# Altium schematic symbol library SamlibSCH.SchLib: 216 symbols (part 2 of 5)
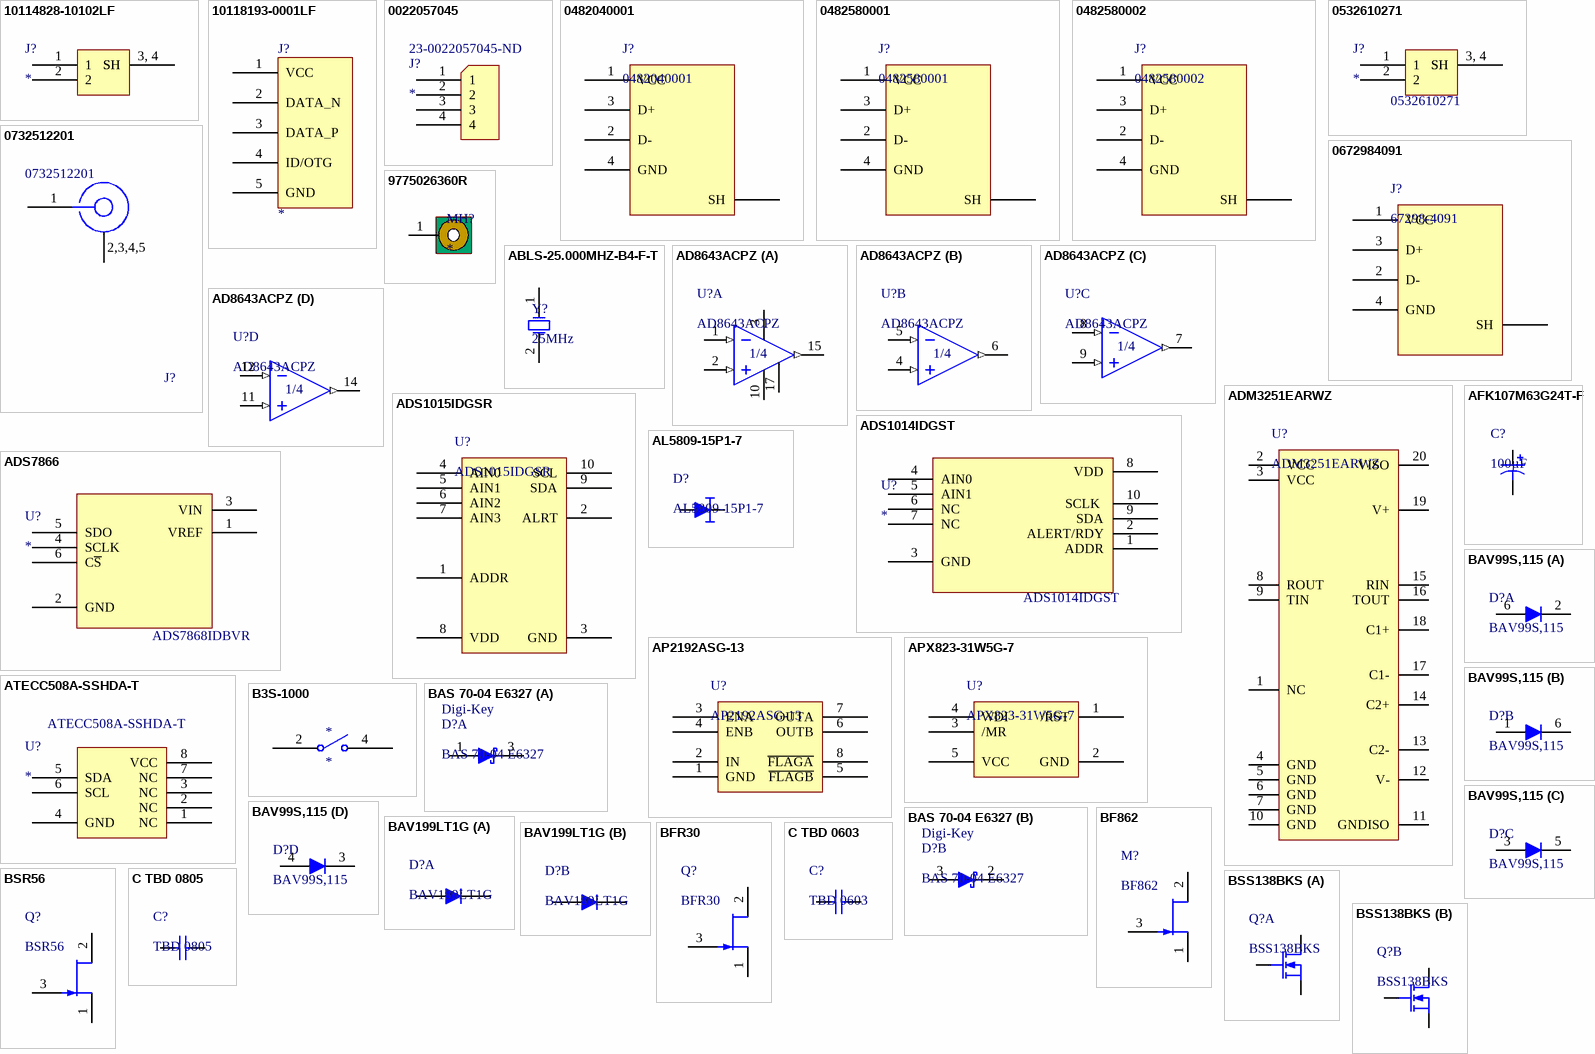
[diagram p8: symbols 10114828-10102LF to C TBD 0805]

## 10118193-0001LF
designator J?
CONN USB MICRO B RECPT SMT R/A; Manufacturer 1: Amphenol FCI; Manufacturer Part Number 1: 10118193-0001LF; Number of Terminals/Pins: 5; Gender: Female; Current Rating: 1.8A; Connector Type: USB,Receptacle; Number of Ports: 1; Insulation Resistance: 1GR; Max Voltage Rating (AC): 100V; Pitch: 0.65mm; Supplier 1: Digi-Key; RoHS: Yes; Category: USB Connectors; Stock 1: 78687; Pricing 1: 1=0.45000, 10=0.43000, 25=0.36840, 50=0.31320, 100=0.30090, 250=0.27016, 500=0.25788 (USD); Mount: Surface Mount,Horizontal; Contact Plating: Gold; Contact Material: Copper Alloy; Housing Material: Polymer; Color: Black; Min Operating Temperature: -55°C; Max Operating Temperature: 85°C; Packaging: Tape and Reel; Number of Contacts: 5; Termination: Solder; Package Quantity: 1200; Voltage Rating: 100V; Orientation: Right Angle; Features: Shielded; Length: 7.86mm; Depth: 5.67mm; Radiation Hardening: No; Flammability Rating: UL94 V-0; ComponentLink1URL: https://datasheet.ciiva.com/851/10118193-851106.pdf?src-supplier=Digi-Key; ComponentLink1Description: https://datasheet.ciiva.com/851/10118193-851106.pdf?src-supplier=Digi-Key; ComponentLink2URL: https://datasheet.ciiva.com/4598/10118193ac-197151-4598799.pdf?src-supplier=Mouser; ComponentLink2Description: https://datasheet.ciiva.com/4598/10118193ac-197151-4598799.pdf?src-supplier=Mouser; ComponentLink3URL: https://datasheet.ciiva.com/26853/getdatasheetpartid-418618-26853893.pdf?src-supplier=Verical; ComponentLink3Description: https://datasheet.ciiva.com/26853/getdatasheetpartid-418618-26853893.pdf?src-supplier=Verical; ComponentLink4URL: https://datasheet.ciiva.com/14802/10118193-0001lf-webpage-14802386.pdf?src-supplier=Arrow+Electronics; ComponentLink4Description: https://datasheet.ciiva.com/14802/10118193-0001lf-webpage-14802386.pdf?src-supplier=Arrow+Electronics; ComponentLink5URL: https://datasheet.ciiva.com/851/10118193-851108.pdf?src-supplier=Digi-Key; ComponentLink5Description: https://datasheet.ciiva.com/851/10118193-851108.pdf?src-supplier=Digi-Key; ComponentLink6URL: https://datasheet.ciiva.com/851/10118193-851107.pdf?src-supplier=Digi-Key; ComponentLink6Description: https://datasheet.ciiva.com/851/10118193-851107.pdf?src-supplier=Digi-Key; ComponentLink7URL: https://datasheet.ciiva.com/14618/70236827-14618887.pdf?src-supplier=Allied+Electronics; ComponentLink7Description: https://datasheet.ciiva.com/14618/70236827-14618887.pdf?src-supplier=Allied+Electronics; Supplier Part Number 1: 609-4616-1-ND
pins: 1 VCC, 2 DATA_N, 3 DATA_P, 4 ID/OTG, 5 GND

## 0022057045
designator J?  Supplier Part Number 1: 23-0022057045-ND
CONN HEADER R/A 4POS 2.5MM; Manufacturer 1: Molex; Contact Resistance: 20mR; Max Voltage Rating (DC): 250.25kV; Gender: Male; Number of Contacts: 4; Shrouded: Yes (With); Current Rating: 3A; Voltage Rating: 250V; Connector Type: Male Pin; Insulation Resistance: 1GR; Test Voltage: 1kV; Glow Wire Compliant: Non-compliant; ComponentLink1URL: https://datasheet.ciiva.com/30140/59000022035045-pcb-headers-30140706.pdf?src-supplier=Onlinecomponents.com; ComponentLink1Description: https://datasheet.ciiva.com/30140/59000022035045-pcb-headers-30140706.pdf?src-supplier=Onlinecomponents.com; ComponentLink2URL: https://datasheet.ciiva.com/11746/0900766b80da772c-11746677.pdf?src-supplier=RSComponents; ComponentLink2Description: https://datasheet.ciiva.com/11746/0900766b80da772c-11746677.pdf?src-supplier=RSComponents; ComponentLink3URL: https://datasheet.ciiva.com/5157/0022035045-pcb-headers-132183-5157848.pdf?src-supplier=Mouser; ComponentLink3Description: https://datasheet.ciiva.com/5157/0022035045-pcb-headers-132183-5157848.pdf?src-supplier=Mouser; ComponentLink4URL: https://datasheet.ciiva.com/27054/1930699-27054941.pdf?src-supplier=Jameco; ComponentLink4Description: https://datasheet.ciiva.com/27054/1930699-27054941.pdf?src-supplier=Jameco; ComponentLink5URL: https://datasheet.ciiva.com/25908/0022035045-pcb-headers-25908182.pdf?src-supplier=Avnet+Europe; ComponentLink5Description: https://datasheet.ciiva.com/25908/0022035045-pcb-headers-25908182.pdf?src-supplier=Avnet+Europe; ComponentLink6URL: https://datasheet.ciiva.com/9468/0022035045-pcb-headers-9468375.pdf?src-supplier=Avnet; ComponentLink6Description: https://datasheet.ciiva.com/9468/0022035045-pcb-headers-9468375.pdf?src-supplier=Avnet; ComponentLink7URL: https://datasheet.ciiva.com/7843/1864671-7843917.pdf?src-supplier=Element14; ComponentLink7Description: https://datasheet.ciiva.com/7843/1864671-7843917.pdf?src-supplier=Element14; ComponentLink8URL: https://datasheet.ciiva.com/711/022057025-sd-711958.pdf?src-supplier=Digi-Key; ComponentLink8Description: https://datasheet.ciiva.com/711/022057025-sd-711958.pdf?src-supplier=Digi-Key; ComponentLink9URL: https://datasheet.ciiva.com/11746/0900766b80dc76ac-11746224.pdf?src-supplier=RSComponents; ComponentLink9Description: https://datasheet.ciiva.com/11746/0900766b80dc76ac-11746224.pdf?src-supplier=RSComponents; ComponentLink10URL: https://datasheet.ciiva.com/30208/225390022057045-pcb-headers-30208112.pdf?src-supplier=Onlinecomponents.com; ComponentLink10Description: https://datasheet.ciiva.com/30208/225390022057045-pcb-headers-30208112.pdf?src-supplier=Onlinecomponents.com; ComponentLink11URL: https://datasheet.ciiva.com/7844/1626532-7844113.pdf?src-supplier=Element14; ComponentLink11Description: https://datasheet.ciiva.com/7844/1626532-7844113.pdf?src-supplier=Element14; ComponentLink12URL: https://datasheet.ciiva.com/5155/0022057045-pcb-headers-158482-5155989.pdf?src-supplier=Mouser; ComponentLink12Description: https://datasheet.ciiva.com/5155/0022057045-pcb-headers-158482-5155989.pdf?src-supplier=Mouser; ComponentLink13URL: https://datasheet.ciiva.com/10090/0022057045-pcb-headers-10090550.pdf?src-supplier=Avnet; ComponentLink13Description: https://datasheet.ciiva.com/10090/0022057045-pcb-headers-10090550.pdf?src-supplier=Avnet; Supplier 1: Digi-Key; Manufacturer Part Number 1: 22-05-7045; Stock 1: 595; Pricing 1: 1=0.28000, 10=0.26300, 100=0.18380, 500=0.15750, 1000=0.13125, 5000=0.11250, 10000=0.10500 (USD); RoHS: Yes; Mount: Through Hole; Contact Material: Brass,Tin; Contact Plating: Tin,Copper; Housing Color: Natural; Housing Material: Nylon; Color: Natural; Material: Nylon,Polyamide; Min Operating Temperature: -40°C; Max Operating Temperature: 105°C; Number of Rows: 1; Packaging: Bulk; Termination: Solder; Orientation: Right Angle; Package Quantity: 1; Number of Poles: 4; Voltage Rating (AC): 250V; Voltage Rating (DC): 250V; Number of Circuits: 4; Contact Gender: Male; Number of Positions: 4; Working Voltage: 250V; Pitch: 2.5mm; Lead Pitch: 2.5mm; Contact Mating Length: 0.138inch; Radiation Hardening: No; Flammability Rating: UL94 V-0; Lead Free: Lead Free; REACH SVHC: Unknown
footprint MOLEX_22-05-7045 (CONN HEADER R/A 4POS 2.5MM)
pins: 1, 2, 3, 4

## 0482040001
designator J?
CONN USB RT ANG RECEPT TYPE A; Manufacturer: Molex, LLC; Connector Type: USB - A; Number of Contacts: 4; Gender: Receptacle; Specifications: USB 2.0; Packaging: Bulk; Mounting Type: Through Hole, Right Angle, Vertical; Features: Board Lock, Shielded; Ingress Protection: -; ComponentLink1URL: http://www.molex.com/pdm_docs/sd/482040001_sd.pdf; ComponentLink1Description: http://www.molex.com/pdm_docs/sd/482040001_sd.pdf; Supplier 1: Digi-Key; Supplier Part Number 1: WM17532-ND; Manufacturer Part Number: 0482040001; RoHS: RoHS Compliant; Category: Connectors, Interconnects; Stock: 6548; Pricing: 1=1.34, 10=1.176, 50=1.061, 100=1.0149, 250=0.9226, 500=0.83034, 1000=0.73808, 2500=0.66888, 5000=0.64582 (USD)
footprint MOLEX_0482040001 (Connector Receptacle USB TypeA 2.0 4 Position Through Hole, Right Angle, Vertical)
pins: 1 VCC (power), 2 D-, 3 D+, 4 GND (power), 5 SH

## 0482580001
designator J?
CONN USB RCPT 4POS R/A REV; Manufacturer: Molex, LLC; Connector Type: USB - A; Number of Contacts: 4; Gender: Receptacle; Specifications: USB 2.0; Packaging: Cut Tape (CT); Mounting Type: Board Cutout, Through Hole, Right Angle; Features: Board Lock, Solder Retention; Ingress Protection: -; ComponentLink1URL: http://www.molex.com/pdm_docs/sd/482580001_sd.pdf; ComponentLink1Description: http://www.molex.com/pdm_docs/sd/482580001_sd.pdf; Supplier 1: Digi-Key; Supplier Part Number 1: WM6294CT-ND; Manufacturer Part Number: 0482580001; RoHS: RoHS Compliant; Category: Connectors, Interconnects; Stock: 5424; Pricing: 1=1.24, 10=1.089, 25=1.0244, 50=0.9818, 100=0.9392 (USD)
footprint MOLEX_482580001 (Connector Receptacle USB TypeA 2.0 4 Position Board Cutout, Through Hole, Right Angle)
pins: 1 VCC (power), 2 D-, 3 D+, 4 GND (power), 6 SH

## 0482580002
designator J?
CONN RCPT USB 4POS RT ANG T/H; Manufacturer: Molex, LLC; Connector Type: USB - A; Number of Contacts: 4; Gender: Receptacle; Specifications: USB 2.0; Packaging: Cut Tape (CT); Mounting Type: Board Cutout, Through Hole, Right Angle; Features: Board Lock, Solder Retention; Ingress Protection: -; ComponentLink1URL: http://www.molex.com/pdm_docs/sd/482580002_sd.pdf; ComponentLink1Description: http://www.molex.com/pdm_docs/sd/482580002_sd.pdf; Supplier 1: Digi-Key; Supplier Part Number 1: WM7087CT-ND; Manufacturer Part Number: 0482580002; RoHS: RoHS Compliant; Category: Connectors, Interconnects; Stock: 42916; Pricing: 1=1.09, 10=0.954, 25=0.898, 50=0.8608, 100=0.8233 (USD)
footprint MOLEX_482580002 (Connector Receptacle USB TypeA 2.0 4 Position Board Cutout, Through Hole, Right Angle)
pins: 1 VCC (power), 2 D-, 3 D+, 4 GND (power), 6 SH

## 0532610271
designator J?  Manufacturer Part Number: 0532610271
CONN HEADER SMD R/A 2POS 1.25MM; Manufacturer: Molex; Gender: Male; Contact Resistance: 20mR; Number of Positions: 2; Connector Type: Blade Pin; Supplier 1: Digi-Key; Supplier Part Number 1: WM7620CT-ND; Stock 1: 59638; Pricing 1: 1 = 0.98000, 10 = 0.86000, 100 = 0.74170, 500 = 0.60688 (USD); RoHS: Yes; Mount: Surface Mount; Contact Plating: Tin; Contact Material: Bronze; Color: Natural; Housing Color: Natural; Housing Material: Nylon; Min Operating Temperature: -40°C; Max Operating Temperature: 85°C; Packaging: Tape and Reel; Termination: Solder; Number of Rows: 1; Number of Contacts: 2; Orientation: Right Angle; Length: 7.65mm; Pitch: 1.25mm; Depth: 5.2mm; ComponentLink1URL: https://datasheet.ciiva.com/6813/532610671-sd-6813952.pdf?src-supplier=Digi-Key; ComponentLink1Description: https://datasheet.ciiva.com/6813/532610671-sd-6813952.pdf?src-supplier=Digi-Key; ComponentLink2URL: https://datasheet.ciiva.com/3117/0532610271-pcb-headers-3117602.pdf?src-supplier=Avnet; ComponentLink2Description: https://datasheet.ciiva.com/3117/0532610271-pcb-headers-3117602.pdf?src-supplier=Avnet; ComponentLink3URL: https://datasheet.ciiva.com/6832/532610271-sd-6832412.pdf?src-supplier=Digi-Key; ComponentLink3Description: https://datasheet.ciiva.com/6832/532610271-sd-6832412.pdf?src-supplier=Digi-Key; ComponentLink4URL: https://datasheet.ciiva.com/6832/532610271-sd-6832431.pdf?src-supplier=Digi-Key; ComponentLink4Description: https://datasheet.ciiva.com/6832/532610271-sd-6832431.pdf?src-supplier=Digi-Key; ComponentLink5URL: https://datasheet.ciiva.com/16498/0532610271-pcb-headers-16498111.pdf?src-supplier=Avnet+Asia; ComponentLink5Description: https://datasheet.ciiva.com/16498/0532610271-pcb-headers-16498111.pdf?src-supplier=Avnet+Asia
footprint 0532610271 (CONN HEADER SMD R/A 2POS 1.25MM)
pins: 1, 2, 3 SH, 4 SH
text: 3, 4

## 0672984091
designator J?, comment 67298-4091
USB DUAL STACKED A CONN BLACK; Manufacturer: Molex, LLC; Connector Type: USB - A, Stacked; Number of Contacts: 8; Gender: Receptacle; Packaging: Tray; Specifications: -; Mounting Type: Through Hole, Right Angle, Horizontal; Features: Board Lock; Ingress Protection: -; ComponentLink1URL: http://www.molex.com/pdm_docs/sd/672984091_sd.pdf; ComponentLink1Description: http://www.molex.com/pdm_docs/sd/672984091_sd.pdf; Supplier 1: Digi-Key; Supplier Part Number 1: WM10650-ND; Manufacturer Part Number: 67298-4091; RoHS: RoHS Compliant; Category: Connectors, Interconnects; Stock: 28210; Pricing: 1=1.89, 10=1.717, 25=1.612, 50=1.5418, 100=1.4717, 250=1.33152, 500=1.2264, 1000=1.0512, 2500=0.98112 (USD); Supplier 2: Mouser; Supplier Part Number 2: 538-67298-4091
footprint 73725-0110BLF (CONN RCPT USB2.0 TYPEA 4POS R/A)
pins: 1 VCC (power), 2 D-, 3 D+, 4 GND (power), 5 SH, 6 SH, 7 SH, 8 SH

## 0732512201
designator J?  Manufacturer Part Number: 0732512201  (hidden comment: *)
CONN SMA JACK R/A 50OHM PCB; Manufacturer: Molex; Body Material: Brass; Body Plating: Gold; Dielectric Material: PTFE; Impedance: 50R; Max Frequency: 18GHz; Voltage Rating: 500V; Supplier 1: Digi-Key; Supplier Part Number 1: WM5537-ND; Stock 1: 1070; Pricing 1: 1 = 6.780000, 10 = 6.496000, 25 = 5.931200, 50 = 5.648600, 100 = 5.366200, 250 = 4.801320, 500 = 4.518880, 1400 = 3.954020 (USD); RoHS: Yes; Mount: Through Hole; Case/Package: SMA; Contact Material: Copper; Contact Plating: Gold; Housing Color: Gold; Insulation Material: Polytetrafluoroethylene; Min Operating Temperature: -65°C; Max Operating Temperature: 165°C; Package Quantity: 1400; Packaging: Bag; Connector Type: SMA; Termination: Solder; Orientation: Right Angle; Fastening Type: Threaded; Length: 19.55mm; Radiation Hardening: No; ComponentLink1URL: https://datasheet.ciiva.com/15172/getdatasheetpartid-177580-15172729.pdf?src-supplier=Verical; ComponentLink1Description: https://datasheet.ciiva.com/15172/getdatasheetpartid-177580-15172729.pdf?src-supplier=Verical
footprint 0732512201 (CONN SMA JACK R/A 50OHM PCB)
pins: 1 SIGNAL, 2 GND, 3 GND, 4, 5
text: 2,3,4,5

## 9775026360R
designator MH?
ROUND STANDOFF M3 STEEL 1MM; Manufacturer: Wurth Electronics; Manufacturer Part Number: 9775026360R; Supplier: Digi-Key; Stock 1: 2632; Pricing 1: 1=0.93000, 10=0.86800, 50=0.80600, 100=0.71300 (USD); RoHS: No; ComponentLink1URL: http://www.farnell.com/datasheets/2570393.pdf?src-supplier=Farnell; ComponentLink1Description: http://www.farnell.com/datasheets/2570393.pdf?src-supplier=Farnell; ComponentLink2URL: https://katalog.we-online.de/em/datasheet/9775026360.pdf?src-supplier=Digi-Key; ComponentLink2Description: https://katalog.we-online.de/em/datasheet/9775026360.pdf?src-supplier=Digi-Key; Supplier Part Number: 732-10909-1-ND
footprint 9775026360R M3 STANDOFF (ROUND STANDOFF M3 STEEL 1MM)
pins: 1

## ABLS-25.000MHZ-B4-F-T
designator Y?, comment 25MHz
CRYSTAL 25.0000MHZ 18PF SMD; Manufacturer: Abracon; Manufacturer Part Number: ABLS-25.000MHZ-B4-F-T; ESR (Equivalent Series Resistance): 40R; Frequency Tolerance: 30ppm; Frequency Stability: 50ppm; Supplier 1: Digi-Key; Supplier Part Number 1: 535-10235-1-ND; Stock 1: 35149; Pricing 1: 1 = 0.25000, 10 = 0.20900, 50 = 0.18820, 100 = 0.16720, 500 = 0.15884 (USD); RoHS: Yes; Mount: Surface Mount; Case/Package: SMD/SMT; Min Operating Temperature: -20°C; Max Operating Temperature: 70°C; Frequency: 25MHz; Load Capacitance: 18pF; Packaging: Tape and Reel; Package Quantity: 1000; Tolerance: 30ppm; Termination: SMD/SMT; Series Resistance: 40R; Length: 11.4mm; Height: 0.165inch; Width: 4.7mm; Depth: 4.7mm; Radiation Hardening: No; REACH SVHC: Yes; Lead Free: Lead Free; ComponentLink1URL: https://datasheet.ciiva.com/15223/getdatasheetpartid-719941-15223237.pdf?src-supplier=Verical; ComponentLink1Description: https://datasheet.ciiva.com/15223/getdatasheetpartid-719941-15223237.pdf?src-supplier=Verical; ComponentLink2URL: https://datasheet.ciiva.com/856/abls-856924.pdf?src-supplier=Digi-Key; ComponentLink2Description: https://datasheet.ciiva.com/856/abls-856924.pdf?src-supplier=Digi-Key; ComponentLink3URL: https://datasheet.ciiva.com/856/abls-856925.pdf?src-supplier=Digi-Key; ComponentLink3Description: https://datasheet.ciiva.com/856/abls-856925.pdf?src-supplier=Digi-Key; ComponentLink4URL: https://datasheet.ciiva.com/3175/abls-3175389.pdf?src-supplier=Avnet; ComponentLink4Description: https://datasheet.ciiva.com/3175/abls-3175389.pdf?src-supplier=Avnet; ComponentLink5URL: https://datasheet.ciiva.com/16216/abls-16216589.pdf?src-supplier=Future+Electronics; ComponentLink5Description: https://datasheet.ciiva.com/16216/abls-16216589.pdf?src-supplier=Future+Electronics; ComponentLink6URL: https://datasheet.ciiva.com/856/abls-856926.pdf?src-supplier=Digi-Key; ComponentLink6Description: https://datasheet.ciiva.com/856/abls-856926.pdf?src-supplier=Digi-Key
footprint HC-49/US
pins: 1 OSC1, 2 OSC2

## AD8643ACPZ
designator U?
IC OPAMP JFET R-R 3.5MHZ 16LFCSP; Supplier 1: Digi-Key; Supplier Part Number 1: AD8643ACPZ-REEL7CT-ND
footprint QFN50P300X300X80-16L (QFN, 16-Leads, Body 3.0x3.0mm (max), Pitch 0.50mm, IPC High Density)
part A pins: 1 IN1- (in), 2 IN1+ (in), 3 V+ (power), 10 V- (power), 15 OUT1 (out), 17 PDL (power)
part B pins: 4 IN2+ (in), 5 IN2- (in), 6 OUT2 (out)
part C pins: 7 OUT3 (out), 8 IN3- (in), 9 IN3+ (in)
part D pins: 11 IN4+ (in), 12 IN4- (in), 14 OUT4 (out)
part A text: 1/4
part B text: 1/4
part C text: 1/4
part D text: 1/4

## ADM3251EARWZ
designator U?
IC DGTL ISO 2.5KV 2CH RS232 20SOIC; Manufacturer: Analog Devices Inc.; Isolated Power: Yes; Number of Channels: 2; Inputs - Side 1/Side 2: 1/1; Channel Type: Unidirectional; Voltage - Isolation: 2500Vrms; Common Mode Transient Immunity (Min): 25kV/µs; Data Rate: 460Kbps; Rise / Fall Time (Typ): 2.3ns, 2.3ns; Voltage - Supply: 3.3V, 5V; Packaging: Tube; Technology: Magnetic Coupling; Type: RS232; Propagation Delay tpLH / tpHL (Max): -; Pulse Width Distortion (Max): -; Operating Temperature: -40°C ~ 85°C; Package / Case: 20-SOIC (0.295", 7.50mm Width); Supplier Device Package: 20-SOIC; ComponentLink1URL: http://www.analog.com/media/en/technical-documentation/data-sheets/ADM3251E.pdf; ComponentLink1Description: http://www.analog.com/media/en/technical-documentation/data-sheets/ADM3251E.pdf; Supplier Part Number 1: ADM3251EARWZ-ND; Manufacturer Part Number: ADM3251EARWZ; RoHS: RoHS Compliant; Category: Isolators; Stock: 3887; Pricing: 1=6.9, 37=5.94, 111=5.15757, 518=4.49112, 1036=3.91162, 2516=3.76675, 5000=3.66 (USD); Supplier 1: Digi-Key
footprint SOIC127P1030X265-20L (SOIC, 20-Leads, Body 12.80x7.50mm, Pitch 1.27mm, IPC High Density)
pins: 1 NC, 2 VCC, 3 VCC, 4 GND, 5 GND, 6 GND, 7 GND, 8 ROUT, 9 TIN, 10 GND, 11 GNDISO, 12 V-, 13 C2-, 14 C2+, 15 RIN, 16 TOUT, 17 C1-, 18 C1+, 19 V+, 20 VISO

## ADS1014IDGST
designator U?  Manufacturer Part Number: ADS1014IDGST
IC ADC 12BIT I2C W/REF 10-MSOP; Manufacturer: Texas Instruments; Operating Supply Voltage: 3.3V; Min Supply Voltage: 2V; Max Supply Voltage: 5.5V; Number of Channels: 1; Max Power Dissipation: 900uW; Number of Bits: 12; Sampling Rate: 3.3KS/s; Resolution: 12b; Polarity: Bipolar; Integral Nonlinearity (INL): 0.5LSB; Supply Type: Single; Conversion Rate: 3300S/s; Nominal Supply Current: 150uA; Supplier 1: Digi-Key; Supplier Part Number 1: 296-25226-1-ND; Stock 1: 3259; Pricing 1: 1 = 2.90000, 10 = 2.60600, 100 = 2.13500 (USD); RoHS: Yes; Case/Package: VSSOP; Number of Pins: 10; Contact Plating: Gold; Min Operating Temperature: -40°C; Max Operating Temperature: 125°C; Packaging: Tape and Reel; Package Quantity: 250; Interface: I2C; Number of Converters: 1; Number of Elements: 1; Number of A/D Converters: 1; Termination: SMD/SMT; Number of Inputs: 1; Max Supply Voltage (DC): 5.5V; Min Supply Voltage (DC): 2V; Power Dissipation: 900uW; Length: 3mm; Height: 1.02mm; Width: 3mm; Radiation Hardening: No; REACH SVHC: No SVHC; Lead Free: Lead Free; ComponentLink1URL: https://datasheet.ciiva.com/1704/ads1015-1704261.pdf?src-supplier=Element14; ComponentLink1Description: https://datasheet.ciiva.com/1704/ads1015-1704261.pdf?src-supplier=Element14; ComponentLink2URL: https://datasheet.ciiva.com/14260/sbas473c-14260071.pdf?src-supplier=Avnet; ComponentLink2Description: https://datasheet.ciiva.com/14260/sbas473c-14260071.pdf?src-supplier=Avnet; ComponentLink3URL: https://datasheet.ciiva.com/1260/ads1013-1260699.pdf?src-supplier=Digi-Key; ComponentLink3Description: https://datasheet.ciiva.com/1260/ads1013-1260699.pdf?src-supplier=Digi-Key; ComponentLink4URL: https://datasheet.ciiva.com/1502/ads1015-1502123.pdf?src-supplier=Farnell; ComponentLink4Description: https://datasheet.ciiva.com/1502/ads1015-1502123.pdf?src-supplier=Farnell; ComponentLink5URL: https://datasheet.ciiva.com/1260/ads1013-1260700.pdf?src-supplier=Digi-Key; ComponentLink5Description: https://datasheet.ciiva.com/1260/ads1013-1260700.pdf?src-supplier=Digi-Key; ComponentLink6URL: https://datasheet.ciiva.com/1260/ads1013-1260701.pdf?src-supplier=Digi-Key; ComponentLink6Description: https://datasheet.ciiva.com/1260/ads1013-1260701.pdf?src-supplier=Digi-Key; ComponentLink7URL: https://datasheet.ciiva.com/25992/sbas473c-25992175.pdf?src-supplier=Avnet+Europe; ComponentLink7Description: https://datasheet.ciiva.com/25992/sbas473c-25992175.pdf?src-supplier=Avnet+Europe; ComponentLink8URL: https://datasheet.ciiva.com/41460/001186679-da-01-en-ic-adc-12bit-i2-ads1014idgst-msop-10-tid-41460998.pdf?src-supplier=Conrad; ComponentLink8Description: https://datasheet.ciiva.com/41460/001186679-da-01-en-ic-adc-12bit-i2-ads1014idgst-msop-10-tid-41460998.pdf?src-supplier=Conrad
footprint Model Name (Footprint not found)
footprint TSSOP50P490X110-10N (TSSOP, 10-Leads, Body 3.1x3.1mm (max), Pitch 0.50mm, IPC Medium Density)
pins: 1 ADDR, 2 ALERT/RDY, 3 GND (power), 4 AIN0, 5 AIN1, 6 NC, 7 NC, 8 VDD (power), 9 SDA, 10 SCLK 

## ADS1015IDGSR
designator U?
IC ADC 12BIT I2C 3.3KSPS 10MSOP; Manufacturer: Texas Instruments; Number of Bits: 12; Sampling Rate (Per Second): 3.3k; Number of Inputs: 2, 4; Input Type: Differential, Single Ended; Data Interface: I²C; Configuration: MUX-PGA-ADC; Number of A/D Converters: 1; Architecture: Sigma-Delta; Reference Type: Internal; Voltage - Supply, Analog: 2 V ~ 5.5 V; Supplier 1: Digi-Key; Manufacturer Part Number: ADS1015IDGSR; RoHS: RoHS Compliant; Category: Integrated Circuits (ICs); Stock 1: 2085; Pricing 1: 1=2.83, 10=2.536, 100=2.0804, 500=1.76986, 1000=1.29375 (USD); Packaging: Cut Tape (CT); Ratio - S/H:ADC: -; Voltage - Supply, Digital: 2 V ~ 5.5 V; Features: PGA; Operating Temperature: -40°C ~ 125°C; Package / Case: 10-TFSOP, 10-MSOP (0.118", 3.00mm Width); Supplier Device Package: 10-VSSOP; ComponentLink1URL: http://www.ti.com/lit/ds/symlink/ads1013.pdf; ComponentLink1Description: http://www.ti.com/lit/ds/symlink/ads1013.pdf; Supplier 2: Mouser; Supplier Part Number 1: 296-41185-1-ND; Supplier Part Number 2: 595-ADS1015IDGSR
footprint TSSOP50P490X110-10N (TSSOP, 10-Leads, Body 3.1x3.1mm (max), Pitch 0.50mm, IPC Medium Density)
pins: 1 ADDR, 2 ALRT, 3 GND (power), 4 AIN0, 5 AIN1, 6 AIN2, 7 AIN3, 8 VDD (power), 9 SDA, 10 SCL

## ADS7866
designator U?  Manufacturer Part Number: ADS7868IDBVR
IC ADC 8BIT SER 280KSPS SOT23-6; Manufacturer: Texas Instruments; Conversion Rate: 280KS/s; Max Power Dissipation: 1.8mW; Number of Channels: 1; Interface: SPI; Number of Bits: 8; Sampling Rate: 280000S/s; Resolution: 8b; Polarity: Unipolar; Supply Type: Single; Max Supply Voltage (DC): 3.6V; Min Supply Voltage (DC): 1.2V; Integral Nonlinearity (INL): 0.5LSB; Spurious-free dynamic range (SFDR): 67dB; Signal to Noise Ratio (SNR): 49.8dB; Nominal Supply Current: 439uA; Power Dissipation: 1.58mW; Operating Supply Voltage: 3.3V; Supplier 1: Digi-Key; Supplier Part Number 1: 296-41406-1-ND; Stock 1: 7557; Pricing 1: 1 = 1.65000, 10 = 1.47100, 100 = 1.14660, 500 = 0.94718, 1000 = 0.74778 (USD); RoHS: Yes; Case/Package: SOT-23-6; Number of Pins: 6; Contact Plating: Gold; Min Operating Temperature: -40°C; Max Operating Temperature: 85°C; Package Quantity: 3000; Packaging: Tape and Reel; Number of Converters: 1; Number of Inputs: 1; Number of A/D Converters: 1; Number of Analog Inputs: 1; Min Supply Voltage: 1.2V; Differential Nonlinearity: 0.5LSB; Full Scale Error: 0.5LSB; Max Supply Voltage: 3.6V; Lead Free: Lead Free; ComponentLink1URL: https://datasheet.ciiva.com/1302/ads7866-1302036.pdf?src-supplier=Digi-Key; ComponentLink1Description: https://datasheet.ciiva.com/1302/ads7866-1302036.pdf?src-supplier=Digi-Key
footprint SOT95P280X116-6L (SOT23, 6-Leads, Body 2.90x2.80mm, Pitch 0.95mm, IPC High Density)
pins: 1 VREF, 2 GND (power), 3 VIN (power), 4 SCLK, 5 SDO, 6 C~{S}

## AFK107M63G24T-F
designator C?, comment 100µF
CAP ALUM 100UF 20% 63V SMD; Manufacturer: Cornell Dubilier Electronics (CDE); Manufacturer Part Number: AFK107M63G24T-F; ESR (Equivalent Series Resistance): 350 mOhm; Lifetime @ Temp.: 2000 Hrs @ 105°C; Ripple Current: 300mA; Surface Mount Land Size: 0.406" L x 0.406" W (10.30mm x 10.30mm); Packaging: Cut Tape (CT); Capacitance: 100µF; Tolerance: ±20%; Voltage Rating: 63V; Operating Temperature: -55°C ~ 105°C; Type: -; Applications: General Purpose; Impedance: 350 mOhm; Lead Spacing: -; Size / Dimension: 0.394" Dia (10.00mm); Height - Seated (Max): 0.402" (10.20mm); Mounting Type: Surface Mount; Package / Case: Radial, Can - SMD; ComponentLink1URL: http://www.cde.com/resources/catalogs/AFK.pdf; ComponentLink1Description: http://www.cde.com/resources/catalogs/AFK.pdf; Supplier 1: Digi-Key; Supplier Part Number 1: 338-2146-1-ND; RoHS: RoHS Compliant; Category: Capacitors; Stock: 19087; Pricing: 1=1.53, 10=1.255, 100=0.8874, 250=0.7344 (USD)
footprint CDE_SMD_CAP_G (Aluminum Electrolytic Capacitor, Body 10.30x10.30x10.20mm, IPC High Density)
pins: 1, 2

## AL5809-15P1-7
designator D?
IC LED DRIVER 60V 15MA CC PDI123; Manufacturer: Diodes Incorporated; Function: Current Regulator; Sensing Method: High/Low-Side; Accuracy: ±5%; Voltage - Input: 2.5 V ~ 60 V; Packaging: Cut Tape (CT); Current - Output: 15mA; Operating Temperature: -40°C ~ 175°C; Mounting Type: Surface Mount; Package / Case: POWERDI®123; Supplier Device Package: PowerDI™ 123; ComponentLink1URL: http://diodes.com/_files/datasheets/AL5809.pdf; ComponentLink1Description: http://diodes.com/_files/datasheets/AL5809.pdf; Supplier 1: Digi-Key; Supplier Part Number 1: AL5809-15P1-7DICT-ND; Manufacturer Part Number: AL5809-15P1-7; RoHS: RoHS Compliant; Category: Integrated Circuits (ICs); Stock 1: 5295; Pricing: 1=0.61, 10=0.522, 100=0.3902, 500=0.30646, 1000=0.23625 (USD)
footprint POWERDI-123 TYPE B (SODFL, 2-Leads, Body 1.78x3.70mm, IPC Medium Density)
pins: 1, 2

## AP2192ASG-13
designator U?
IC SW DISTRIBUTION 2CHAN 8SOIC; Manufacturer: Diodes; Number of Outputs: 2; Min Supply Voltage: 2.7V; Max Supply Voltage: 5.5V; Interface: On/Off; Max Output Current: 1.5A; On-State Resistance: 130mR; Fault Protection: Over Temperature; Output Configuration: High Side; ComponentLink1URL: http://www.micrel.com/_PDF/mic2026.pdf; ComponentLink1Description: http://www.micrel.com/_PDF/mic2026.pdf; Supplier 1: Digi-Key; Supplier Part Number 1: AP2192ASG-13DICT-ND; Stock 1: 4230; Pricing 1: 1 = 0.83000, 10 = 0.73800, 100 = 0.57570, 500 = 0.47556, 1000 = 0.37544 (USD); RoHS: Yes; Mount: Surface Mount; Case/Package: SO; Number of Pins: 8; Weight: 0.00261oz; Min Operating Temperature: -40°C; Max Operating Temperature: 85°C; Packaging: Tape and Reel; Package Quantity: 2500; Radiation Hardening: No; REACH SVHC: No SVHC; ComponentLink2URL: https://datasheet.ciiva.com/15108/getdatasheetpartid-375446-15108552.pdf?src-supplier=Verical; ComponentLink2Description: https://datasheet.ciiva.com/15108/getdatasheetpartid-375446-15108552.pdf?src-supplier=Verical; ComponentLink3URL: https://datasheet.ciiva.com/3234/ap2182a-92a-3234417.pdf?src-supplier=Avnet; ComponentLink3Description: https://datasheet.ciiva.com/3234/ap2182a-92a-3234417.pdf?src-supplier=Avnet; ComponentLink4URL: https://datasheet.ciiva.com/1962/ap2182a-92a-1962268.pdf?src-supplier=Digi-Key; ComponentLink4Description: https://datasheet.ciiva.com/1962/ap2182a-92a-1962268.pdf?src-supplier=Digi-Key; ComponentLink5URL: https://datasheet.ciiva.com/4924/ap2182a-92a-4924428.pdf?src-supplier=Mouser; ComponentLink5Description: https://datasheet.ciiva.com/4924/ap2182a-92a-4924428.pdf?src-supplier=Mouser; ComponentLink6URL: https://datasheet.ciiva.com/1962/ap2182a-92a-1962267.pdf?src-supplier=Digi-Key; ComponentLink6Description: https://datasheet.ciiva.com/1962/ap2182a-92a-1962267.pdf?src-supplier=Digi-Key; Manufacturer Part Number: AP2192ASG-13
footprint SOIC127P600X175-8N (SOIC, 8-Leads, Body 4.9x3.9mm (max), Pitch 1.27mm, IPC Medium Density)
pins: 1 GND (power), 2 IN, 3 ENA, 4 ENB, 5 ~{FLAGB}, 6 OUTB, 7 OUTA, 8 ~{FLAGA}

## APX823-31W5G-7
designator U?
IC SUPERVISOR LO 3.08V SOT-25
footprint SOT95P285X145-5N (SOT23, 5-Leads, Body 3.1x3.0mm (max), Pitch 0.95mm, IPC Medium Density)
pins: 1 /RST, 2 GND (power), 3 /MR, 4 WDI, 5 VCC (power)

## ATECC508A-SSHDA-T
designator U?  Manufacturer Part Number: ATECC508A-SSHDA-T
C AUTHENTICATION CHIP 8SOIC; Manufacturer: Microchip; ComponentLink1URL: http://www.microchip.com/mymicrochip/filehandler.aspx?ddocname=en603815&src-supplier=Digi-Key; ComponentLink1Description: http://www.microchip.com/mymicrochip/filehandler.aspx?ddocname=en603815&src-supplier=Digi-Key; Supplier 1: Digi-Key; Stock 1: 2359; Pricing 1: 1=0.73000, 25=0.70120 (USD); RoHS: No; Supplier Part Number 1: ATECC508A-SSHDA-TCT-ND
footprint SOIC127P600X175-8N (SOIC, 8-Leads, Body 4.9x3.9mm (max), Pitch 1.27mm, IPC Medium Density)
pins: 1 NC, 2 NC, 3 NC, 4 GND, 5 SDA, 6 SCL, 7 NC, 8 VCC

## B3S-1000
designator *
footprint B3S-1000_OMR
pins: 1, 2, 3, 4

## BAS 70-04 E6327
designator D?  Supplier 3: Digi-Key  Supplier Part Number 3: 609-1041-ND  Stock: 15197  Pricing: 1=0.84, 10=0.738, 50=0.666, 100=0.6371, 250=0.5792, 500=0.52128, 1000=0.46336, 2500=0.41992, 5000=0.40544 (USD)
DIODE ARRAY SCHOTTKY 70V SOT23; Manufacturer: Infineon Technologies; Diode Configuration: 1 Pair Series Connection; Current - Average Rectified (Io) (per Diode): 70mA (DC); Voltage - Forward (Vf) (Max) @ If: 1V @ 15mA; Speed: Small Signal =< 200mA (Io), Any Speed; Reverse Recovery Time (trr): 100ps; Current - Reverse Leakage @ Vr: 100nA @ 50V; Configuration: Dual Series; If - Forward Current: 0.07 A; Ifsm - Forward Surge Current: 0.1 A; Ir - Reverse Current: 0.1 uA at 50 V; Vf - Forward Voltage: 1 V at 0.015 A; Connector Type: USB - A; Number of Contacts: 4; Gender: Receptacle; Specifications: USB 2.0; Supplier 1: Digi-Key; Manufacturer Part Number: BAS 70-04 E6327; RoHS: RoHS Compliant; Category: Discrete Semiconductor Products; Stock 1: 42828; Pricing 1: 1=0.37, 10=0.276, 100=0.1561, 500=0.10352, 1000=0.0794 (USD); Packaging: Cut Tape (CT); Diode Type: Schottky; Voltage - DC Reverse (Vr) (Max): 70V; Mounting Type: Surface Mount; Package / Case: TO-236-3, SC-59, SOT-23-3; Supplier Device Package: PG-SOT23-3; ComponentLink1URL: http://www.infineon.com/dgdl/bas70_bas170series.pdf?folderId=db3a30431400ef68011425f1ca2505e3&fileId=db3a304314dca389011518ad41680e12; ComponentLink1Description: http://www.infineon.com/dgdl/bas70_bas170series.pdf?folderId=db3a30431400ef68011425f1ca2505e3&fileId=db3a304314dca389011518ad41680e12; Supplier Part Number 1: BAS7004INCT-ND; Supplier 2: Mouser; Stock 2: 39856; Pricing 2: 1=0.688, 10=0.387, 100=0.166, 1000=0.126, 3000=0.096, 24000=0.080, 45000=0.070, 99000=0.069 (AUD); Product: Schottky Diodes; Series: BAS70-04; Technology: Si; Brand: Infineon Technologies; Mounting Style: SMD/SMT; Maximum Operating Temperature: + 125 C; Minimum Operating Temperature: - 55 C; Product Category: Schottky Diodes; Standard Pack Qty: 3000; Vrrm - Repetitive Reverse Voltage: 70 V; RoHS - Mouser: Y; Minimum Order Quantity: 1; Reeling: True; ComponentLink2URL: http://www.mouser.com/ds/2/196/bas70_bas170series_2014-85076.pdf; ComponentLink2Description: http://www.mouser.com/ds/2/196/bas70_bas170series_2014-85076.pdf; Supplier Part Number 2: 726-BAS70-04E6327; Features: Board Lock, Shielded; Ingress Protection: -; ComponentLink3URL: http://portal.fciconnect.com/Comergent//fci/drawing/73725.pdf; ComponentLink3Description: http://portal.fciconnect.com/Comergent//fci/drawing/73725.pdf
footprint SOT23-3N (SOT23, 3-Leads, Body 2.9x1.3mm, Pitch 0.95mm, Lead Span 2.5mm, IPC Medium Density)
part A pins: 1, 3
part B pins: 2, 3

## BAV99S,115
designator D?
DIODE ARRAY GP 100V 200MA 6TSSOP; Manufacturer: NXP Semiconductors; Diode Configuration: 2 Pair Series Connection; Diode Type: Standard; Current - Average Rectified (Io) (per Diode): 200mA (DC); Voltage - Forward (Vf) (Max) @ If: 1.25V @ 150mA; Speed: Small Signal =< 200mA (Io), Any Speed; Reverse Recovery Time (trr): 4ns; Current - Reverse Leakage @ Vr: 500nA @ 80V; Packaging: Cut Tape (CT); Voltage - DC Reverse (Vr) (Max): 100V; Mounting Type: Surface Mount; Package / Case: 6-TSSOP, SC-88, SOT-363; Supplier Device Package: 6-TSSOP; ComponentLink1URL: http://www.nxp.com/documents/data_sheet/BAV99_SER.pdf; ComponentLink1Description: http://www.nxp.com/documents/data_sheet/BAV99_SER.pdf; Supplier 1: Digi-Key; Supplier Part Number 1: 568-4507-1-ND; Manufacturer Part Number: BAV99S,115; RoHS: RoHS Compliant; Category: Discrete Semiconductor Products; Stock 1: 21053; Pricing: 1=0.28, 10=0.233, 100=0.1233, 500=0.08106, 1000=0.05523 (USD)
footprint SOT363 (SC-88) (SOT23, 6-Leads, Body 2.2x2.2mm (max), Pitch 0.65mm, IPC Medium Density)
part A pins: 2, 6
part B pins: 1, 6
part C pins: 3, 5
part D pins: 3, 4

## BAV199LT1G
designator D?
DIODE ARRAY GP 70V 215MA SOT23-3; Manufacturer: ON Semiconductor; Diode Configuration: 1 Pair Series Connection; Diode Type: Standard; Current - Average Rectified (Io) (per Diode): 215mA (DC); Voltage - Forward (Vf) (Max) @ If: 1.25V @ 150mA; Speed: Standard Recovery >500ns, > 200mA (Io); Reverse Recovery Time (trr): 3µs; Current - Reverse Leakage @ Vr: 5nA @ 70V; Configuration: Dual Series; Max Surge Current: 2 A; Recovery Time: 3 us; If - Forward Current: 715 mA; Vf - Forward Voltage: 1.25 V; Supplier 1: Digi-Key; Manufacturer Part Number: BAV199LT1G; RoHS: RoHS Compliant; Category: Discrete Semiconductor Products; Stock 1: 21437; Pricing 1: 1=0.28, 10=0.229, 100=0.1215, 500=0.0799, 1000=0.05444 (USD); Packaging: Cut Tape (CT); Voltage - DC Reverse (Vr) (Max): 70V; Mounting Type: Surface Mount; Package / Case: TO-236-3, SC-59, SOT-23-3; Supplier Device Package: SOT-23-3 (TO-236); ComponentLink1URL: http://www.onsemi.com/pub_link/Collateral/BAV199LT1-D.PDF; ComponentLink1Description: http://www.onsemi.com/pub_link/Collateral/BAV199LT1-D.PDF; Supplier 2: Mouser; Stock 2: 56187; Pricing 2: 1=0.464, 10=0.307, 100=0.128, 1000=0.086, 3000=0.066, 24000=0.053, 45000=0.050, 99000=0.043 (AUD); Operating Temperature Range: - 65 C to + 150 C; Product: Standard Recovery Rectifiers; Series: BAV199L; Brand: ON Semiconductor; Mounting Style: SMD/SMT; Maximum Operating Temperature: + 150 C; Minimum Operating Temperature: - 65 C; Product Category: Diodes- Tuning; Standard Pack Qty: 3000; Vr - Reverse Voltage: 70 V; RoHS - Mouser: Y; Minimum Order Quantity: 1; Reeling: True; ComponentLink2URL: http://www.mouser.com/ds/2/308/BAV199LT1-D-103491.pdf; ComponentLink2Description: http://www.mouser.com/ds/2/308/BAV199LT1-D-103491.pdf; Supplier Part Number 1: BAV199LT1GOSCT-ND; Supplier Part Number 2: 863-BAV199LT1G
footprint SOT23-3N (SOT23, 3-Leads, Body 2.9x1.3mm, Pitch 0.95mm, Lead Span 2.5mm, IPC Medium Density)
part A pins: 1, 3
part B pins: 2, 3

## BF862
designator M?
JFET N-CHAN 20V SOT-23
footprint SOT23-3N (SOT23, 3-Leads, Body 2.9x1.3mm, Pitch 0.95mm, Lead Span 2.5mm, IPC Medium Density)
pins: 1 S, 2 D, 3 G

## BFR30
designator Q?
JFET N-CH 25V 10MA 250MW
footprint SOT23-3N (SOT23, 3-Leads, Body 2.9x1.3mm, Pitch 0.95mm, Lead Span 2.5mm, IPC Medium Density)
pins: 1 S, 2 D, 3 G

## BSR56
designator Q?
JFET N-CH 40V 20MA 250MW; Manufacturer: Fairchild Semiconductor; FET Type: N-Channel; Current - Drain (Idss) @ Vds (Vgs: 0)=50mA @ 15V; Voltage - Cutoff (VGS off) @ Id: 4V @ 0.5nA; Resistance - RDS(On): 25 Ohm; Packaging: Cut Tape (CT); Voltage - Breakdown (V(BR)GSS): 40V; Drain to Source Voltage (Vdss): -; Current Drain (Id) - Max: -; Input Capacitance (Ciss) @ Vds: -; Mounting Type: Surface Mount; Package / Case: TO-236-3, SC-59, SOT-23-3; Supplier Device Package: SOT-23-3 (TO-236); Power - Max: 250mW; ComponentLink1URL: http://www.fairchildsemi.com/datasheets/BS/BSR56.pdf; ComponentLink1Description: http://www.fairchildsemi.com/datasheets/BS/BSR56.pdf; Supplier 1: Digi-Key; Supplier Part Number 1: BSR56CT-ND; Manufacturer Part Number: BSR56; RoHS: RoHS Compliant; Category: Discrete Semiconductor Products; Stock: 4418; Pricing: 1=0.47, 10=0.336, 25=0.2612, 100=0.1977, 250=0.13972, 500=0.11186, 1000=0.08579 (USD)
footprint SOT23-3N (SOT23, 3-Leads, Body 2.9x1.3mm, Pitch 0.95mm, Lead Span 2.5mm, IPC Medium Density)
pins: 1 S, 2 D, 3 G

## BSS138BKS
designator Q?
MOSFET 2N-CH 60V 0.32A 6TSSOP; Manufacturer: NXP Semiconductors; Manufacturer Part Number: BSS138BKS,115; FET Type: 2 N-Channel (Dual); FET Feature: Logic Level Gate; Current - Continuous Drain (Id) @ 25°C: 320mA; Rds On (Max) @ Id, Vgs: 1.6 Ohm @ 320mA, 10V; Vgs(th) (Max) @ Id: 1.6V @ 250µA; Gate Charge (Qg) @ Vgs: 0.7nC @ 4.5V; Input Capacitance (Ciss) @ Vds: 56pF @ 10V; Power - Max: 445mW; Packaging: Cut Tape (CT); Drain to Source Voltage (Vdss): 60V; Mounting Type: Surface Mount; Package / Case: 6-TSSOP, SC-88, SOT-363; Supplier Device Package: 6-TSSOP; ComponentLink1URL: http://www.nxp.com/documents/data_sheet/BSS138BKS.pdf; ComponentLink1Description: http://www.nxp.com/documents/data_sheet/BSS138BKS.pdf; Supplier 1: Digi-Key; Supplier Part Number 1: 568-8392-1-ND; RoHS: RoHS Compliant; Category: Discrete Semiconductor Products; Stock: 37742; Pricing: 1=0.38, 10=0.29, 100=0.1807, 500=0.12354, 1000=0.09497 (USD)
footprint SOT363 (SC-88) (SOT23, 6-Leads, Body 2.2x2.2mm (max), Pitch 0.65mm, IPC Medium Density)
part A pins: 1 S, 2 G, 6 D
part B pins: 3 D, 4 S, 5 G

## C TBD 0603
designator C?, comment TBD 0603
footprint CAPC1608L (Chip Capacitor, Body 1.6x0.8mm, IPC High Density)
footprint 0603 (0603 from SM-752 data)
pins: 1, 2

## C TBD 0805
designator C?, comment TBD 0805
footprint CAPC2012L (Chip Capacitor, Body 2.0x1.3mm, IPC High Density)
footprint 0805_HV (0805 with 30mil clearance between pads)
pins: 1, 2

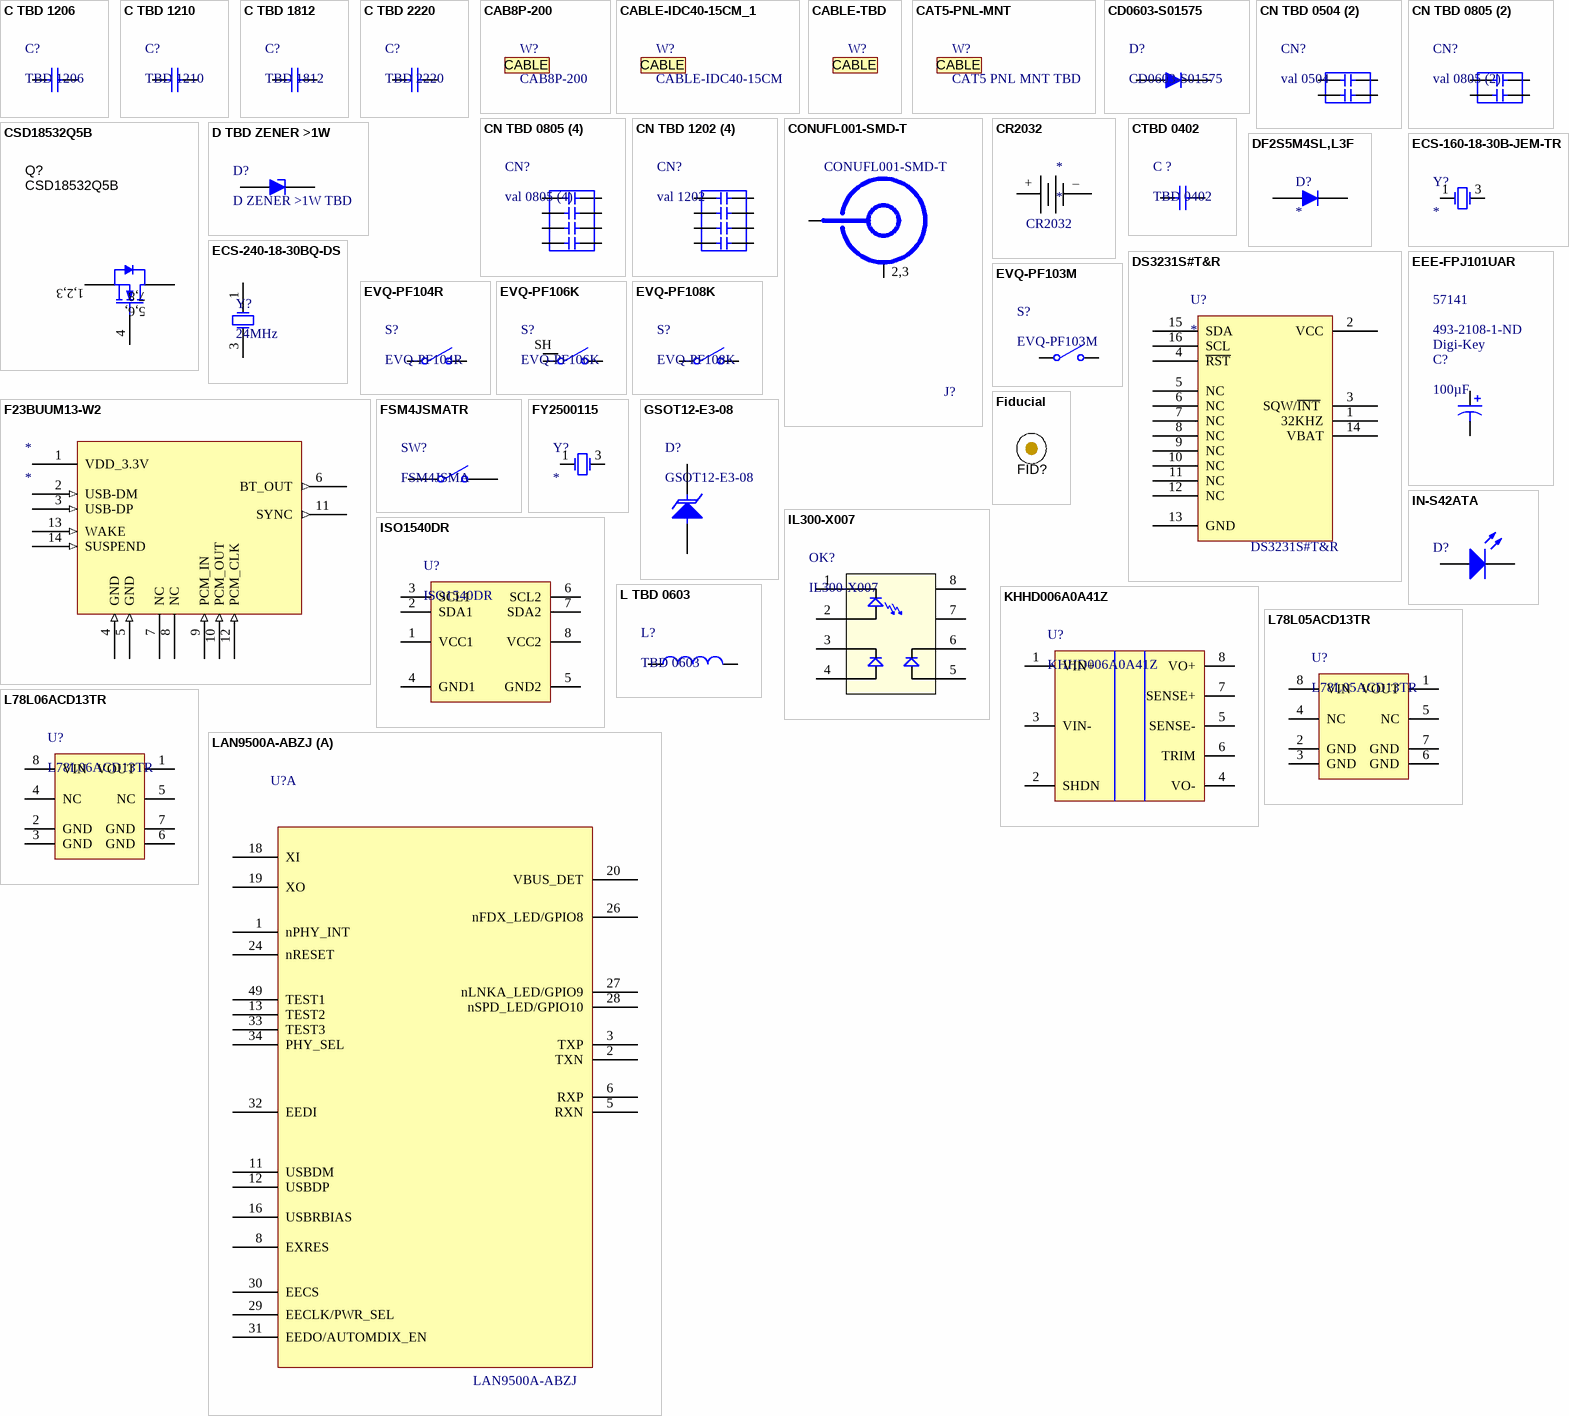
[diagram p2: symbols C TBD 1206 to LAN9500A-ABZJ]

## C TBD 1206
designator C?, comment TBD 1206
footprint 1206 (1206 from SM-752 data)
footprint 1206_190
pins: 1, 2

## C TBD 1210
designator C?, comment TBD 1210
footprint 1210M (3225) (1210 from SM-752 data)
pins: 1, 2

## C TBD 1812
designator C?, comment TBD 1812
footprint 1812
pins: 1, 2

## C TBD 2220
designator C?, comment TBD 2220
footprint 2220 (Chip Capacitor, Body 5.7x5.0mm, IPC Medium Density)
pins: 1, 2

## CAB8P-200
designator W?  (mechanical)
CABLE 8PIN FEMALE/FEMALE 2.54MM 20CM
text: CABLE

## CABLE-IDC40-15CM_1
designator W?, comment CABLE-IDC40-15CM  (mechanical)
CABLE 40 PIN IDC RIBBON CABLE ASSY; Manufacturer: Olimex LTD; Specifications: 40-Pin Ribbon Cable; Accessory Type: Cable; ComponentLink1URL: https://www.olimex.com/Products/OLinuXino/A13/A13-OLinuXino/resources/A13-OLINUXINO.pdf; ComponentLink1Description: https://www.olimex.com/Products/OLinuXino/A13/A13-OLinuXino/resources/A13-OLINUXINO.pdf; Supplier 1: Digi-Key; Supplier Part Number 1: 1188-1101-ND; Manufacturer Part Number: CABLE-IDC40-15CM; RoHS: RoHS Compliant; Category: Embedded Computers; Stock: 13; Pricing: 1=2.83 (USD)
text: CABLE

## CABLE-TBD
designator W?  (mechanical)
Accessory Type: Cable; Specifications: 40-Pin Ribbon Cable; RoHS: RoHS Compliant
text: CABLE

## CAT5-PNL-MNT
designator W?, comment CAT5 PNL MNT TBD  (mechanical)
GENERIC PANEL MOUNT CAT5
text: CABLE

## CD0603-S01575
designator D?
DIODE GEN PURP 75V 150MA 0603; Manufacturer: Bourns Inc.; Diode Type: Standard; Voltage - Forward (Vf) (Max) @ If: 1V @ 50mA; Speed: Small Signal =< 200mA (Io), Any Speed; Reverse Recovery Time (trr): 4ns; Current - Reverse Leakage @ Vr: 2.5µA @ 75V; Capacitance @ Vr, F: 4pF @ 1V, 100MHz; Packaging: Cut Tape (CT); Voltage - DC Reverse (Vr) (Max): 75V; Current - Average Rectified (Io): 150mA; Mounting Type: Surface Mount; Package / Case: 0603 (1608 Metric); Supplier Device Package: 0603; Operating Temperature - Junction: -40°C ~ 125°C; ComponentLink1URL: http://www.bourns.com/docs/Product-Datasheets/CD0603_1005.pdf; ComponentLink1Description: http://www.bourns.com/docs/Product-Datasheets/CD0603_1005.pdf; Supplier 1: Digi-Key; Supplier Part Number 1: CD0603-S01575CT-ND; Manufacturer Part Number: CD0603-S01575; RoHS: RoHS Compliant; Category: Discrete Semiconductor Products; Stock: 24698; Pricing: 1=0.4, 10=0.361, 25=0.2596, 100=0.2019, 250=0.12684, 500=0.10808, 1000=0.07364, 2500=0.06636 (USD)
footprint Diode_0603 (Based on Bourns recommended land pattern Rev 10/09)
pins: 1, 2

## CN TBD 0504 (2)
designator CN?, comment val 0504
0504 CASE (2)
footprint CAP CKCM25 (0504) (2) (TDK CAP 2-ARRAY 0504)
pins: 1, 2, 3, 4

## CN TBD 0805 (2)
designator CN?, comment val 0805 (2)
0805 CASE (2)
footprint CAP CKCL22 (0805) (2) (TDK CAP 2-ARRAY 0805)
pins: 1, 2, 3, 4

## CN TBD 0805 (4)
designator CN?, comment val 0805 (4)
0805 CASE (4)
footprint CAP CKCL44 (0805) (4)  (SP) (TDK Corporation CAP 4-ARRAY 0805)
pins: 1, 2, 3, 4, 5, 6, 7, 8

## CN TBD 1202 (4)
designator CN?, comment val 1202
1206 CASE (4)
footprint CAP CKCA43 (1206) (4) (TDK CAP 4-ARRAY 1206)
pins: 1, 2, 3, 4, 5, 6, 7, 8

## CONUFL001-SMD-T
designator J?  Manufacturer Part Number: CONUFL001-SMD-T  (hidden comment: *)
UFL CONN UMC JACK STR SMD; Manufacturer: Linx; Supplier 1: Digi-Key; Supplier Part Number 1: CONUFL001-SMD-TCT-ND; Stock 1: 6029; Pricing 1: 1 = 0.45000 (USD); RoHS: No; ComponentLink1URL: https://media.digikey.com/pdf/Data%20Sheets/Linx%20Technologies%20PDFs/CONUFL001-SMD_T_Dwg_RevB_5-15-17.pdf?src-supplier=Digi-Key; ComponentLink1Description: https://media.digikey.com/pdf/Data%20Sheets/Linx%20Technologies%20PDFs/CONUFL001-SMD_T_Dwg_RevB_5-15-17.pdf?src-supplier=Digi-Key
pins: 1 SIGNAL, 2 GND, 3 GND
text: 2,3

## CR2032
designator *  Manufacturer Part Number: CR2032  (mechanical)
3V COIN CELL BATTERY WITH 2-PIN JST CONNECTOR
text: +; –

## CSD18532Q5B
designator Q?
MOSFET N-CH 60V 23A 8VSON; Manufacturer: Texas Instruments; FET Type: MOSFET N-Channel, Metal Oxide; FET Feature: Logic Level Gate; Current - Continuous Drain (Id) @ 25°C: 100A (Ta); Rds On (Max) @ Id, Vgs: 3.2 mOhm @ 25A, 10V; Vgs(th) (Max) @ Id: 2.2V @ 250µA; Gate Charge (Qg) @ Vgs: 58nC @ 10V; Input Capacitance (Ciss) @ Vds: 5070pF @ 30V; Power - Max: 3.2W; Packaging: Cut Tape (CT); Drain to Source Voltage (Vdss): 60V; Mounting Type: Surface Mount; Package / Case: 8-PowerTDFN; Supplier Device Package: 8-VSON (5x6); ComponentLink1URL: http://www.ti.com/lit/ds/symlink/csd18532q5b.pdf; ComponentLink1Description: http://www.ti.com/lit/ds/symlink/csd18532q5b.pdf; Supplier 1: Digi-Key; Supplier Part Number 1: 296-35628-1-ND; Manufacturer Part Number: CSD18532Q5B; RoHS: RoHS Compliant By Exemption; Category: Discrete Semiconductor Products; Stock: 3300; Pricing: 1=2.76, 10=2.482, 100=1.9907, 500=1.6362, 1000=1.13625 (USD)
footprint CSD18532Q5B (MOSFET, N-CH, 60V, 172A, SON 5x6mm)
pins: 1 S, 2 S, 3 S, 4 G, 5 D, 6 D, 7 D, 8 D
text: 1,2,3; 7,8; 5,6,

## CTBD 0402
designator C ?, comment TBD 0402
footprint RESC1005L (Chip Resistor, Body 1.1x0.5mm, IPC High Density)
footprint CAPC1005L (Chip Capacitor, Body 1.0x0.5mm, IPC High Density)
pins: 1, 2

## D TBD ZENER >1W
designator D?, comment D ZENER >1W TBD
footprint PMDU 1W (ROHM) (PMDU, 2-Leads, Body 1.60x3.50mm, IPC Medium Density)
footprint TMiniP2-F2-B 2W (PANASONIC) (TMiniP2-F2-B  2-Leads, Body 2.40x4.70mm, IPC Low Density)
footprint SMA 1.5W (ON-SEMI) (SMA  2-Leads, Body 2.60x5.21mm, IPC Low Density)
pins: 1, 2

## DF2S5M4SL,L3F
designator D?
TVS DIODE 3.6V 15V SL2; Manufacturer: Toshiba; Manufacturer Part Number: DF2S5M4SL,L3F; Supplier 1: Digi-Key; Supplier Part Number 1: DF2S5M4SLL3FCT-ND; Stock 1: 27107; Pricing 1: 1 = 0.31000, 10 = 0.28300, 25 = 0.20400, 100 = 0.15860, 250 = 0.09972, 500 = 0.08498, 1000 = 0.05778, 2500 = 0.05212, 5000 = 0.04532 (USD)
footprint 0201
pins: 1, 2

## DS3231S#T&R
designator U?  Manufacturer Part Number: DS3231S#T&R
IC RTC CLK/CALENDAR I2C 16-SOIC; Manufacturer: Maxim; Max Supply Voltage: 5.5V; Min Supply Voltage: 2.3V; Logic Function: Clock; Time Format: HH:MM:SS; Date Format: YY-MM-DD-dd; Operating Supply Voltage: 3.3V; Supplier 1: Digi-Key; Supplier Part Number 1: DS3231S#T&RDKR-ND; Stock 1: 3883; Pricing 1: 1 = 7.87000, 10 = 7.10900, 25 = 6.77800, 100 = 5.88520, 250 = 5.62072, 500 = 5.12476 (USD); RoHS: Yes; Mount: Surface Mount; Case/Package: SOIC; Number of Pins: 16; Contact Plating: Tin; Min Operating Temperature: 0°C; Max Operating Temperature: 70°C; Packaging: Tape and Reel; Package Quantity: 1000; Interface: I2C; Radiation Hardening: No; ComponentLink1URL: https://datasheet.ciiva.com/17307/ds3231-17307127.pdf?src-supplier=Avnet+Europe; ComponentLink1Description: https://datasheet.ciiva.com/17307/ds3231-17307127.pdf?src-supplier=Avnet+Europe; ComponentLink2URL: https://datasheet.ciiva.com/14244/ds3231-14244729.pdf?src-supplier=Avnet; ComponentLink2Description: https://datasheet.ciiva.com/14244/ds3231-14244729.pdf?src-supplier=Avnet; ComponentLink3URL: https://datasheet.ciiva.com/14244/ds3231-14244634.pdf?src-supplier=Avnet; ComponentLink3Description: https://datasheet.ciiva.com/14244/ds3231-14244634.pdf?src-supplier=Avnet; ComponentLink4URL: https://datasheet.ciiva.com/1243/ds3231-ds3231s-1243996.pdf?src-supplier=Digi-Key; ComponentLink4Description: https://datasheet.ciiva.com/1243/ds3231-ds3231s-1243996.pdf?src-supplier=Digi-Key; ComponentLink5URL: https://datasheet.ciiva.com/12292/ds3231-102175-12292014.pdf?src-supplier=Mouser; ComponentLink5Description: https://datasheet.ciiva.com/12292/ds3231-102175-12292014.pdf?src-supplier=Mouser
footprint SOIC127P1040X211-16L (SOIC, 16-Leads, Body 10.16x7.49mm, Pitch 1.27mm, IPC High Density)
pins: 1 32KHZ, 2 VCC, 3 SQW/~{INT} , 4 ~{RST}, 5 NC, 6 NC, 7 NC, 8 NC, 9 NC, 10 NC, 11 NC, 12 NC, 13 GND, 14 VBAT, 15 SDA, 16 SCL

## ECS-160-18-30B-JEM-TR
designator Y?
CRYSTAL 16MHZ 18PF SMD; Manufacturer 1: ECS International; Manufacturer Part Number 1: ECS-160-18-30B-JEM-TR; ComponentLink1URL: https://www.eea.epson.com/wp-content/uploads/2016/11/November-2016-PCS-MASTER-BOOK.pdf?src-supplier=Verical; ComponentLink1Description: https://www.eea.epson.com/wp-content/uploads/2016/11/November-2016-PCS-MASTER-BOOK.pdf?src-supplier=Verical; ComponentLink2URL: https://www5.epsondevice.com/en/information/support/pdf/june_2018_psc_masterbook.pdf?src-supplier=Digi-Key; ComponentLink2Description: https://www5.epsondevice.com/en/information/support/pdf/june_2018_psc_masterbook.pdf?src-supplier=Digi-Key; ComponentLink3URL: https://www.eea.epson.com/wp-content/uploads/2016/11/November-2016-PCS-MASTER-BOOK.pdf?src-supplier=Mouser; ComponentLink3Description: https://www.eea.epson.com/wp-content/uploads/2016/11/November-2016-PCS-MASTER-BOOK.pdf?src-supplier=Mouser; ComponentLink4URL: https://www.eea.epson.com/wp-content/uploads/2016/11/November-2016-PCS-MASTER-BOOK.pdf?src-supplier=Dove; ComponentLink4Description: https://www.eea.epson.com/wp-content/uploads/2016/11/November-2016-PCS-MASTER-BOOK.pdf?src-supplier=Dove; Supplier 1: Digi-Key; Stock 1: 1654; Pricing 1: 1=0.63000, 10=0.52300, 50=0.47020, 100=0.41800, 500=0.39710 (USD); RoHS: No; Supplier Part Number 1: XC2732CT-ND
footprint SMD 3.2MMx5MM (XTAL 3.2MMx5MM)
pins: 1 OSC1, 3 OSC2

## ECS-240-18-30BQ-DS
designator Y?, comment 24MHz
CRYSTAL 24.0000MHZ 18PF SMD; Manufacturer: ECS Inc.; Manufacturer Part Number: ECS-240-18-30BQ-DS; Frequency Stability: ±100ppm; Frequency Tolerance: ±30ppm; ESR (Equivalent Series Resistance): 30 Ohm; Operating Mode: Fundamental; Tolerance: 30 PPM; Brand: ECS; ESR: 30 Ohms; Packaging: Digi-Reel®; Type: MHz Crystal; Frequency: 24MHz; Load Capacitance: 18pF; Operating Temperature: -40°C ~ 125°C; Ratings: AEC-Q200; Mounting Type: Surface Mount; Package / Case: 4-SMD, No Lead (DFN, LCC); Size / Dimension: 0.197" L x 0.126" W (5.00mm x 3.20mm); Height: 0.033" (0.85mm); ComponentLink1URL: http://www.ecsxtal.com/store/pdf/ECX-53BQ.pdf; ComponentLink1Description: http://www.ecsxtal.com/store/pdf/ECX-53BQ.pdf; Length: 5 mm; Operating Temperature Range: - 40 C to + 125 C; Series: ECX-53BQ; Termination Style: SMD/SMT; Width: 3.2 mm; Mounting Style: SMD/SMT; Standard Pack Qty: 1000; RoHS - Mouser: Y; Minimum Order Quantity: 1; Reeling: True; ComponentLink2URL: http://www.mouser.com/ds/2/122/ECX-53BQ-245170.pdf; ComponentLink2Description: http://www.mouser.com/ds/2/122/ECX-53BQ-245170.pdf; Supplier 1: Digi-Key; Supplier Part Number 1: XC2000DKR-ND; RoHS: RoHS Compliant; Category: Crystals and Oscillators; Stock: 1918; Pricing: 1=1.58, 10=1.365, 50=1.197, 100=0.945, 500=0.798 (USD); Supplier 2: Mouser; Supplier Part Number 2: 520-ECS-240-1830BQDS
footprint SMD 3.2MMx5MM (XTAL 3.2MMx5MM)
pins: 1 OSC1, 3 OSC2

## EEE-FPJ101UAR
designator C?, comment 100µF  Supplier 2: Digi-Key  Supplier Part Number 2: 493-2108-1-ND  Stock 2: 57141
CAP ALUM 100UF 20% 6.3V SMD 5MM X 6.1MM X 5.8MM; Manufacturer: Panasonic Electronic Components; Manufacturer Part Number: EEE-FPJ101UAR; ESR (Equivalent Series Resistance): 360 mOhm; Lifetime @ Temp.: 2000 Hrs @ 105°C; Ripple Current: 156mA; Surface Mount Land Size: 0.209" L x 0.209" W (5.30mm x 5.30mm); Polarization: Polar; Packaging: Cut Tape (CT); Capacitance: 100µF; Tolerance: ±20%; Voltage Rating: 6.3V; Operating Temperature: -55°C ~ 105°C; Type: -; Applications: Automotive; Impedance: -; Lead Spacing: -; Size / Dimension: 0.197" Dia (5.00mm); Height - Seated (Max): 0.228" (5.80mm); Mounting Type: Surface Mount; Package / Case: Radial, Can - SMD; ComponentLink1URL: http://industrial.panasonic.com/www-cgi/jvcr13pz.cgi?E+PZ+3+ABA0114+EEEFPJ101UAR+7+WW; ComponentLink1Description: http://industrial.panasonic.com/www-cgi/jvcr13pz.cgi?E+PZ+3+ABA0114+EEEFPJ101UAR+7+WW; Supplier 1: Digi-Key; Supplier Part Number 1: PCE4514CT-ND; RoHS: RoHS Compliant; Category: Capacitors; Stock: 14391; Pricing: 1=0.63, 10=0.532, 25=0.4364, 50=0.381, 100=0.3333, 250=0.26188, 500=0.23806 (USD); Part Status: Active; ComponentLink2URL: http://nichicon-us.com/english/products/pdfs/e-uwx.pdf; ComponentLink2Description: http://nichicon-us.com/english/products/pdfs/e-uwx.pdf
footprint PANASONIC_CAP_SMD_C (PANASONIC SMD C 5.30x5.30x5.80mm, IPC High Density)
pins: 1, 2